# Altium integrated library TI Power Management LDO Single Channel(400-7500mA).IntLib: 1409 symbols (part 47 of 60)
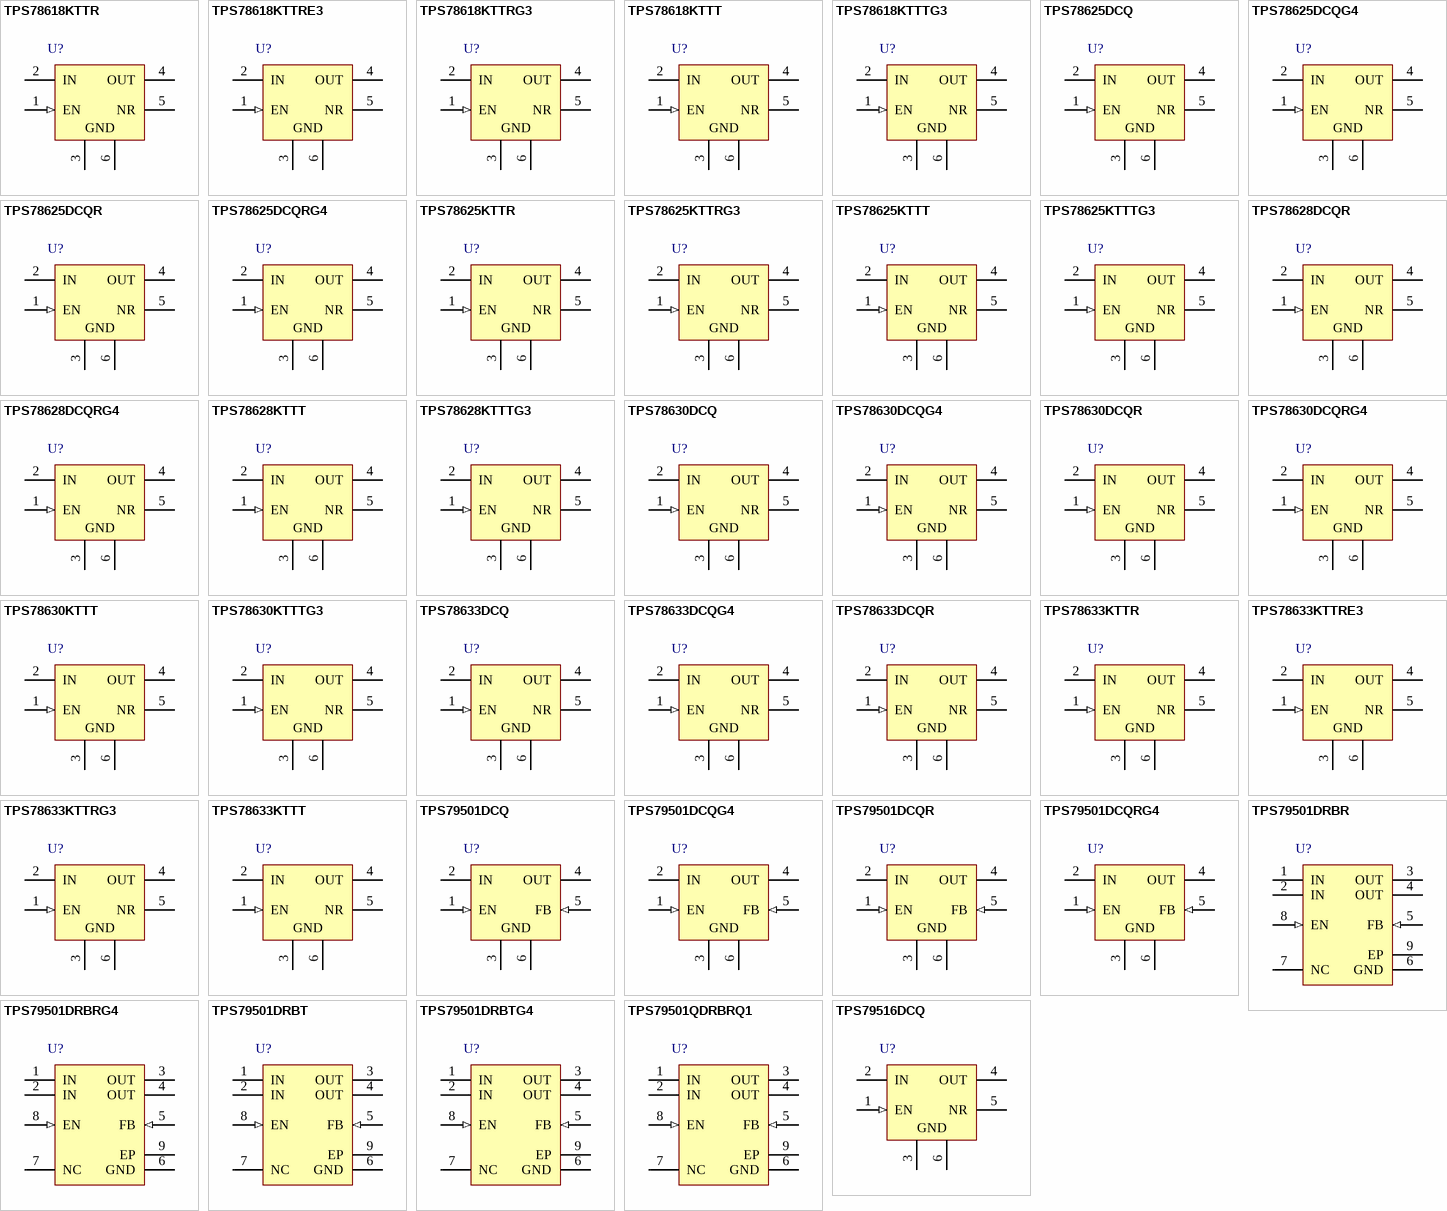
[diagram p96: symbols TPS78618KTTR to TPS79516DCQ]

## TPS78618KTTRE3
designator U?
Single Output High PSRR LDO, 1.5 A, Fixed 1.8 V Output, 2.7 to 5.5 V Input, 5-pin DDPAK (KTT), -40 to 125 degC, Green (RoHS & no Sb/Br); Manufacturer: Texas Instruments; PartNumber: TPS78618KTTRE3; Accuracy(%): 3; Fixed Output Options(V): 1.8; Iout(Max)(A): 1.5; Iq(Typ)(mA): 0.2; SubFamily: Single Channel LDO; Vdo(Typ)(mV): 390; Vin(Max)(V): 5.5; Vin(Min)(V): 2.7; DatasheetVersion: SLVS389L; PackageVersion: 4200577-3/F; PackageReference: KTT5; PackageDescription: 3-Pin Plastic Flange Mount, Body 10.16 x 10.34 mm, Pitch 1.7 mm; Supplier 1: Digi-Key; Supplier Part Number 1: TPS78618KTTRE3-ND; Supplier 2: Mouser; Supplier Part Number 2: 595-TPS78618KTTRE3; Eco-Plan: Green (RoHS & no Sb/Br); Vout Adj(Max)(V): 1.8; Vout Adj(Min)(V): 1.8; Mounting Technology: Surface Mount; Code_JEDEC: TO-263; ComponentLink1Description: Manufacturer URL; ComponentLink1URL: http://www.ti.com/; ComponentLink2Description: Datasheet; ComponentLink2URL: http://www.ti.com/general/docs/lit/getliterature.tsp?genericPartNumber=TPS78618&fileType=pdf; ComponentLink3Description: Package Specification; ComponentLink3URL: http://www.ti.com/litv/pdf/mpsf007e
footprint TI-KTT5_N (DPAK, 5-Leads, Body 10.16x8.925mm, Pitch 1.7mm, IPC Medium Density)
footprint TI-KTT5_L (DPAK, 5-Leads, Body 10.16x8.925mm, Pitch 1.7mm, IPC High Density)
footprint TI-KTT5_M (DPAK, 5-Leads, Body 10.16x8.925mm, Pitch 1.7mm, IPC Low Density)
pins: 1 EN (in) "The EN terminal is an input that enables or shuts down the device. When EN is a logic high, the device is enabled. When the device is a logic low, the device is in shutdown mode.", 2 IN (power) "Unregulated input to the device.", 3 GND (power) "Regulator ground", 4 OUT (power) "Regulator output", 5 NR "Connecting an external capacitor to this pin bypasses noise generated by the internal bandgap, which improves power-supply rejection and reduces output noise.", 6 GND (power) "Regulator ground"

## TPS78618KTTRG3
designator U?
Single Output High PSRR LDO, 1.5 A, Fixed 1.8 V Output, 2.7 to 5.5 V Input, 5-pin DDPAK (KTT), -40 to 125 degC, Green (RoHS & no Sb/Br); Manufacturer: Texas Instruments; PartNumber: TPS78618KTTRG3; Accuracy(%): 3; Fixed Output Options(V): 1.8; Iout(Max)(A): 1.5; Iq(Typ)(mA): 0.2; SubFamily: Single Channel LDO; Vdo(Typ)(mV): 390; Vin(Max)(V): 5.5; Vin(Min)(V): 2.7; DatasheetVersion: SLVS389L; PackageVersion: 4200577-3/F; PackageReference: KTT5; PackageDescription: 3-Pin Plastic Flange Mount, Body 10.16 x 10.34 mm, Pitch 1.7 mm; Supplier 1: Digi-Key; Supplier Part Number 1: TPS78618KTTRG3-ND; Supplier 2: Mouser; Supplier Part Number 2: 595-TPS78618KTTRG3; Eco-Plan: Green (RoHS & no Sb/Br); Vout Adj(Max)(V): 1.8; Vout Adj(Min)(V): 1.8; Mounting Technology: Surface Mount; Code_JEDEC: TO-263; ComponentLink1Description: Manufacturer URL; ComponentLink1URL: http://www.ti.com/; ComponentLink2Description: Datasheet; ComponentLink2URL: http://www.ti.com/general/docs/lit/getliterature.tsp?genericPartNumber=TPS78618&fileType=pdf; ComponentLink3Description: Package Specification; ComponentLink3URL: http://www.ti.com/litv/pdf/mpsf007e
footprint TI-KTT5_N (DPAK, 5-Leads, Body 10.16x8.925mm, Pitch 1.7mm, IPC Medium Density)
footprint TI-KTT5_L (DPAK, 5-Leads, Body 10.16x8.925mm, Pitch 1.7mm, IPC High Density)
footprint TI-KTT5_M (DPAK, 5-Leads, Body 10.16x8.925mm, Pitch 1.7mm, IPC Low Density)
pins: 1 EN (in) "The EN terminal is an input that enables or shuts down the device. When EN is a logic high, the device is enabled. When the device is a logic low, the device is in shutdown mode.", 2 IN (power) "Unregulated input to the device.", 3 GND (power) "Regulator ground", 4 OUT (power) "Regulator output", 5 NR "Connecting an external capacitor to this pin bypasses noise generated by the internal bandgap, which improves power-supply rejection and reduces output noise.", 6 GND (power) "Regulator ground"

## TPS78618KTTT
designator U?
Single Output High PSRR LDO, 1.5 A, Fixed 1.8 V Output, 2.7 to 5.5 V Input, 5-pin DDPAK (KTT), -40 to 125 degC, Green (RoHS & no Sb/Br); Manufacturer: Texas Instruments; PartNumber: TPS78618KTTT; Accuracy(%): 3; Fixed Output Options(V): 1.8; Iout(Max)(A): 1.5; Iq(Typ)(mA): 0.2; SubFamily: Single Channel LDO; Vdo(Typ)(mV): 390; Vin(Max)(V): 5.5; Vin(Min)(V): 2.7; DatasheetVersion: SLVS389L; PackageVersion: 4200577-3/F; PackageReference: KTT5; PackageDescription: 3-Pin Plastic Flange Mount, Body 10.16 x 10.34 mm, Pitch 1.7 mm; Supplier 1: Digi-Key; Supplier Part Number 1: 296-14422-2-ND; Supplier 2: Digi-Key; Supplier Part Number 2: 296-14422-1-ND; Supplier 3: Digi-Key; Supplier Part Number 3: 296-14422-6-ND; Supplier 4: Newark; Supplier Part Number 4: 32H6576; Supplier 5: Mouser; Supplier Part Number 5: 595-TPS78618KTTT; Eco-Plan: Green (RoHS & no Sb/Br); Vout Adj(Max)(V): 1.8; Vout Adj(Min)(V): 1.8; Mounting Technology: Surface Mount; Code_JEDEC: TO-263; ComponentLink1Description: Manufacturer URL; ComponentLink1URL: http://www.ti.com/; ComponentLink2Description: Datasheet; ComponentLink2URL: http://www.ti.com/general/docs/lit/getliterature.tsp?genericPartNumber=TPS78618&fileType=pdf; ComponentLink3Description: Package Specification; ComponentLink3URL: http://www.ti.com/litv/pdf/mpsf007e
footprint TI-KTT5_N (DPAK, 5-Leads, Body 10.16x8.925mm, Pitch 1.7mm, IPC Medium Density)
footprint TI-KTT5_L (DPAK, 5-Leads, Body 10.16x8.925mm, Pitch 1.7mm, IPC High Density)
footprint TI-KTT5_M (DPAK, 5-Leads, Body 10.16x8.925mm, Pitch 1.7mm, IPC Low Density)
pins: 1 EN (in) "The EN terminal is an input that enables or shuts down the device. When EN is a logic high, the device is enabled. When the device is a logic low, the device is in shutdown mode.", 2 IN (power) "Unregulated input to the device.", 3 GND (power) "Regulator ground", 4 OUT (power) "Regulator output", 5 NR "Connecting an external capacitor to this pin bypasses noise generated by the internal bandgap, which improves power-supply rejection and reduces output noise.", 6 GND (power) "Regulator ground"

## TPS78618KTTTG3
designator U?
Single Output High PSRR LDO, 1.5 A, Fixed 1.8 V Output, 2.7 to 5.5 V Input, 5-pin DDPAK (KTT), -40 to 125 degC, Green (RoHS & no Sb/Br); Manufacturer: Texas Instruments; PartNumber: TPS78618KTTTG3; Accuracy(%): 3; Fixed Output Options(V): 1.8; Iout(Max)(A): 1.5; Iq(Typ)(mA): 0.2; SubFamily: Single Channel LDO; Vdo(Typ)(mV): 390; Vin(Max)(V): 5.5; Vin(Min)(V): 2.7; DatasheetVersion: SLVS389L; PackageVersion: 4200577-3/F; PackageReference: KTT5; PackageDescription: 3-Pin Plastic Flange Mount, Body 10.16 x 10.34 mm, Pitch 1.7 mm; Supplier 1: Digi-Key; Supplier Part Number 1: TPS78618KTTTG3-ND; Supplier 2: Mouser; Supplier Part Number 2: 595-TPS78618KTTTG3; Eco-Plan: Green (RoHS & no Sb/Br); Vout Adj(Max)(V): 1.8; Vout Adj(Min)(V): 1.8; Mounting Technology: Surface Mount; Code_JEDEC: TO-263; ComponentLink1Description: Manufacturer URL; ComponentLink1URL: http://www.ti.com/; ComponentLink2Description: Datasheet; ComponentLink2URL: http://www.ti.com/general/docs/lit/getliterature.tsp?genericPartNumber=TPS78618&fileType=pdf; ComponentLink3Description: Package Specification; ComponentLink3URL: http://www.ti.com/litv/pdf/mpsf007e
footprint TI-KTT5_N (DPAK, 5-Leads, Body 10.16x8.925mm, Pitch 1.7mm, IPC Medium Density)
footprint TI-KTT5_L (DPAK, 5-Leads, Body 10.16x8.925mm, Pitch 1.7mm, IPC High Density)
footprint TI-KTT5_M (DPAK, 5-Leads, Body 10.16x8.925mm, Pitch 1.7mm, IPC Low Density)
pins: 1 EN (in) "The EN terminal is an input that enables or shuts down the device. When EN is a logic high, the device is enabled. When the device is a logic low, the device is in shutdown mode.", 2 IN (power) "Unregulated input to the device.", 3 GND (power) "Regulator ground", 4 OUT (power) "Regulator output", 5 NR "Connecting an external capacitor to this pin bypasses noise generated by the internal bandgap, which improves power-supply rejection and reduces output noise.", 6 GND (power) "Regulator ground"

## TPS78625DCQ
designator U?
Single Output High PSRR LDO, 1.5 A, Fixed 2.5 V Output, 2.7 to 5.5 V Input, 6-pin SOT-223 (DCQ), -40 to 125 degC, Green (RoHS & no Sb/Br); Manufacturer: Texas Instruments; PartNumber: TPS78625DCQ; Accuracy(%): 3; Fixed Output Options(V): 2.5; Iout(Max)(A): 1.5; Iq(Typ)(mA): 0.2; SubFamily: Single Channel LDO; Vdo(Typ)(mV): 390; Vin(Max)(V): 5.5; Vin(Min)(V): 2.7; DatasheetVersion: SLVS389L; PackageVersion: 4202109/D; PackageReference: DCQ6; PackageDescription: 6-Pin Plastic Small Outline, Body 3.5 x 6.5 mm, Pitch 1.27 mm; Supplier 1: Digi-Key; Supplier Part Number 1: 296-27090-5-ND; Supplier 2: Newark; Supplier Part Number 2: 02E7250; Supplier 3: Mouser; Supplier Part Number 3: 595-TPS78625DCQ; Eco-Plan: Green (RoHS & no Sb/Br); Vout Adj(Max)(V): 2.5; Vout Adj(Min)(V): 2.5; Mounting Technology: Surface Mount; ComponentLink1Description: Manufacturer URL; ComponentLink1URL: http://www.ti.com/; ComponentLink2Description: Datasheet; ComponentLink2URL: http://www.ti.com/general/docs/lit/getliterature.tsp?genericPartNumber=TPS78625&fileType=pdf; ComponentLink3Description: Package Specification; ComponentLink3URL: http://www.ti.com/litv/pdf/mpds098c
footprint TI-DCQ6_N (SOT223, 6-Leads, Body 6.5x3.5mm, Pitch 1.27mm, IPC Medium Density)
footprint TI-DCQ6_L (SOT223, 6-Leads, Body 6.5x3.5mm, Pitch 1.27mm, IPC High Density)
footprint TI-DCQ6_M (SOT223, 6-Leads, Body 6.5x3.5mm, Pitch 1.27mm, IPC Low Density)
pins: 1 EN (in) "The EN terminal is an input that enables or shuts down the device. When EN is a logic high, the device is enabled. When the device is a logic low, the device is in shutdown mode.", 2 IN (power) "Unregulated input to the device.", 3 GND (power) "Regulator ground", 4 OUT (power) "Regulator output", 5 NR "Connecting an external capacitor to this pin bypasses noise generated by the internal bandgap, which improves power-supply rejection and reduces output noise.", 6 GND (power) "Regulator ground"

## TPS78625DCQG4
designator U?
Single Output High PSRR LDO, 1.5 A, Fixed 2.5 V Output, 2.7 to 5.5 V Input, 6-pin SOT-223 (DCQ), -40 to 125 degC, Green (RoHS & no Sb/Br); Manufacturer: Texas Instruments; PartNumber: TPS78625DCQG4; Accuracy(%): 3; Fixed Output Options(V): 2.5; Iout(Max)(A): 1.5; Iq(Typ)(mA): 0.2; SubFamily: Single Channel LDO; Vdo(Typ)(mV): 390; Vin(Max)(V): 5.5; Vin(Min)(V): 2.7; DatasheetVersion: SLVS389L; PackageVersion: 4202109/D; PackageReference: DCQ6; PackageDescription: 6-Pin Plastic Small Outline, Body 3.5 x 6.5 mm, Pitch 1.27 mm; Supplier 1: Digi-Key; Supplier Part Number 1: TPS78625DCQG4-ND; Supplier 2: Newark; Supplier Part Number 2: 85K1744; Supplier 3: Mouser; Supplier Part Number 3: 595-TPS78625DCQG4; Eco-Plan: Green (RoHS & no Sb/Br); Vout Adj(Max)(V): 2.5; Vout Adj(Min)(V): 2.5; Mounting Technology: Surface Mount; ComponentLink1Description: Manufacturer URL; ComponentLink1URL: http://www.ti.com/; ComponentLink2Description: Datasheet; ComponentLink2URL: http://www.ti.com/general/docs/lit/getliterature.tsp?genericPartNumber=TPS78625&fileType=pdf; ComponentLink3Description: Package Specification; ComponentLink3URL: http://www.ti.com/litv/pdf/mpds098c
footprint TI-DCQ6_N (SOT223, 6-Leads, Body 6.5x3.5mm, Pitch 1.27mm, IPC Medium Density)
footprint TI-DCQ6_L (SOT223, 6-Leads, Body 6.5x3.5mm, Pitch 1.27mm, IPC High Density)
footprint TI-DCQ6_M (SOT223, 6-Leads, Body 6.5x3.5mm, Pitch 1.27mm, IPC Low Density)
pins: 1 EN (in) "The EN terminal is an input that enables or shuts down the device. When EN is a logic high, the device is enabled. When the device is a logic low, the device is in shutdown mode.", 2 IN (power) "Unregulated input to the device.", 3 GND (power) "Regulator ground", 4 OUT (power) "Regulator output", 5 NR "Connecting an external capacitor to this pin bypasses noise generated by the internal bandgap, which improves power-supply rejection and reduces output noise.", 6 GND (power) "Regulator ground"

## TPS78625DCQR
designator U?
Single Output High PSRR LDO, 1.5 A, Fixed 2.5 V Output, 2.7 to 5.5 V Input, 6-pin SOT-223 (DCQ), -40 to 125 degC, Green (RoHS & no Sb/Br); Manufacturer: Texas Instruments; PartNumber: TPS78625DCQR; Accuracy(%): 3; Fixed Output Options(V): 2.5; Iout(Max)(A): 1.5; Iq(Typ)(mA): 0.2; SubFamily: Single Channel LDO; Vdo(Typ)(mV): 390; Vin(Max)(V): 5.5; Vin(Min)(V): 2.7; DatasheetVersion: SLVS389L; PackageVersion: 4202109/D; PackageReference: DCQ6; PackageDescription: 6-Pin Plastic Small Outline, Body 3.5 x 6.5 mm, Pitch 1.27 mm; Supplier 1: Digi-Key; Supplier Part Number 1: 296-13757-2-ND; Supplier 2: Digi-Key; Supplier Part Number 2: 296-13757-1-ND; Supplier 3: Digi-Key; Supplier Part Number 3: 296-13757-6-ND; Supplier 4: Newark; Supplier Part Number 4: 02E7251; Supplier 5: Mouser; Supplier Part Number 5: 595-TPS78625DCQR; Eco-Plan: Green (RoHS & no Sb/Br); Vout Adj(Max)(V): 2.5; Vout Adj(Min)(V): 2.5; Mounting Technology: Surface Mount; ComponentLink1Description: Manufacturer URL; ComponentLink1URL: http://www.ti.com/; ComponentLink2Description: Datasheet; ComponentLink2URL: http://www.ti.com/general/docs/lit/getliterature.tsp?genericPartNumber=TPS78625&fileType=pdf; ComponentLink3Description: Package Specification; ComponentLink3URL: http://www.ti.com/litv/pdf/mpds098c
footprint TI-DCQ6_N (SOT223, 6-Leads, Body 6.5x3.5mm, Pitch 1.27mm, IPC Medium Density)
footprint TI-DCQ6_L (SOT223, 6-Leads, Body 6.5x3.5mm, Pitch 1.27mm, IPC High Density)
footprint TI-DCQ6_M (SOT223, 6-Leads, Body 6.5x3.5mm, Pitch 1.27mm, IPC Low Density)
pins: 1 EN (in) "The EN terminal is an input that enables or shuts down the device. When EN is a logic high, the device is enabled. When the device is a logic low, the device is in shutdown mode.", 2 IN (power) "Unregulated input to the device.", 3 GND (power) "Regulator ground", 4 OUT (power) "Regulator output", 5 NR "Connecting an external capacitor to this pin bypasses noise generated by the internal bandgap, which improves power-supply rejection and reduces output noise.", 6 GND (power) "Regulator ground"

## TPS78625DCQRG4
designator U?
Single Output High PSRR LDO, 1.5 A, Fixed 2.5 V Output, 2.7 to 5.5 V Input, 6-pin SOT-223 (DCQ), -40 to 125 degC, Green (RoHS & no Sb/Br); Manufacturer: Texas Instruments; PartNumber: TPS78625DCQRG4; Accuracy(%): 3; Fixed Output Options(V): 2.5; Iout(Max)(A): 1.5; Iq(Typ)(mA): 0.2; SubFamily: Single Channel LDO; Vdo(Typ)(mV): 390; Vin(Max)(V): 5.5; Vin(Min)(V): 2.7; DatasheetVersion: SLVS389L; PackageVersion: 4202109/D; PackageReference: DCQ6; PackageDescription: 6-Pin Plastic Small Outline, Body 3.5 x 6.5 mm, Pitch 1.27 mm; Supplier 1: Digi-Key; Supplier Part Number 1: TPS78625DCQRG4-ND; Supplier 2: Mouser; Supplier Part Number 2: 595-TPS78625DCQRG4; Eco-Plan: Green (RoHS & no Sb/Br); Vout Adj(Max)(V): 2.5; Vout Adj(Min)(V): 2.5; Mounting Technology: Surface Mount; ComponentLink1Description: Manufacturer URL; ComponentLink1URL: http://www.ti.com/; ComponentLink2Description: Datasheet; ComponentLink2URL: http://www.ti.com/general/docs/lit/getliterature.tsp?genericPartNumber=TPS78625&fileType=pdf; ComponentLink3Description: Package Specification; ComponentLink3URL: http://www.ti.com/litv/pdf/mpds098c
footprint TI-DCQ6_N (SOT223, 6-Leads, Body 6.5x3.5mm, Pitch 1.27mm, IPC Medium Density)
footprint TI-DCQ6_L (SOT223, 6-Leads, Body 6.5x3.5mm, Pitch 1.27mm, IPC High Density)
footprint TI-DCQ6_M (SOT223, 6-Leads, Body 6.5x3.5mm, Pitch 1.27mm, IPC Low Density)
pins: 1 EN (in) "The EN terminal is an input that enables or shuts down the device. When EN is a logic high, the device is enabled. When the device is a logic low, the device is in shutdown mode.", 2 IN (power) "Unregulated input to the device.", 3 GND (power) "Regulator ground", 4 OUT (power) "Regulator output", 5 NR "Connecting an external capacitor to this pin bypasses noise generated by the internal bandgap, which improves power-supply rejection and reduces output noise.", 6 GND (power) "Regulator ground"

## TPS78625KTTR
designator U?
Single Output High PSRR LDO, 1.5 A, Fixed 2.5 V Output, 2.7 to 5.5 V Input, 5-pin DDPAK (KTT), -40 to 125 degC, Green (RoHS & no Sb/Br); Manufacturer: Texas Instruments; PartNumber: TPS78625KTTR; Accuracy(%): 3; Fixed Output Options(V): 2.5; Iout(Max)(A): 1.5; Iq(Typ)(mA): 0.2; SubFamily: Single Channel LDO; Vdo(Typ)(mV): 390; Vin(Max)(V): 5.5; Vin(Min)(V): 2.7; DatasheetVersion: SLVS389L; PackageVersion: 4200577-3/F; PackageReference: KTT5; PackageDescription: 3-Pin Plastic Flange Mount, Body 10.16 x 10.34 mm, Pitch 1.7 mm; Supplier 1: Digi-Key; Supplier Part Number 1: TPS78625KTTR-ND; Supplier 2: Mouser; Supplier Part Number 2: 595-TPS78625KTTR; Eco-Plan: Green (RoHS & no Sb/Br); Vout Adj(Max)(V): 2.5; Vout Adj(Min)(V): 2.5; Mounting Technology: Surface Mount; Code_JEDEC: TO-263; ComponentLink1Description: Manufacturer URL; ComponentLink1URL: http://www.ti.com/; ComponentLink2Description: Datasheet; ComponentLink2URL: http://www.ti.com/general/docs/lit/getliterature.tsp?genericPartNumber=TPS78625&fileType=pdf; ComponentLink3Description: Package Specification; ComponentLink3URL: http://www.ti.com/litv/pdf/mpsf007e
footprint TI-KTT5_N (DPAK, 5-Leads, Body 10.16x8.925mm, Pitch 1.7mm, IPC Medium Density)
footprint TI-KTT5_L (DPAK, 5-Leads, Body 10.16x8.925mm, Pitch 1.7mm, IPC High Density)
footprint TI-KTT5_M (DPAK, 5-Leads, Body 10.16x8.925mm, Pitch 1.7mm, IPC Low Density)
pins: 1 EN (in) "The EN terminal is an input that enables or shuts down the device. When EN is a logic high, the device is enabled. When the device is a logic low, the device is in shutdown mode.", 2 IN (power) "Unregulated input to the device.", 3 GND (power) "Regulator ground", 4 OUT (power) "Regulator output", 5 NR "Connecting an external capacitor to this pin bypasses noise generated by the internal bandgap, which improves power-supply rejection and reduces output noise.", 6 GND (power) "Regulator ground"

## TPS78625KTTRG3
designator U?
Single Output High PSRR LDO, 1.5 A, Fixed 2.5 V Output, 2.7 to 5.5 V Input, 5-pin DDPAK (KTT), -40 to 125 degC, Green (RoHS & no Sb/Br); Manufacturer: Texas Instruments; PartNumber: TPS78625KTTRG3; Accuracy(%): 3; Fixed Output Options(V): 2.5; Iout(Max)(A): 1.5; Iq(Typ)(mA): 0.2; SubFamily: Single Channel LDO; Vdo(Typ)(mV): 390; Vin(Max)(V): 5.5; Vin(Min)(V): 2.7; DatasheetVersion: SLVS389L; PackageVersion: 4200577-3/F; PackageReference: KTT5; PackageDescription: 3-Pin Plastic Flange Mount, Body 10.16 x 10.34 mm, Pitch 1.7 mm; Supplier 1: Digi-Key; Supplier Part Number 1: TPS78625KTTRG3-ND; Supplier 2: Mouser; Supplier Part Number 2: 595-TPS78625KTTRG3; Eco-Plan: Green (RoHS & no Sb/Br); Vout Adj(Max)(V): 2.5; Vout Adj(Min)(V): 2.5; Mounting Technology: Surface Mount; Code_JEDEC: TO-263; ComponentLink1Description: Manufacturer URL; ComponentLink1URL: http://www.ti.com/; ComponentLink2Description: Datasheet; ComponentLink2URL: http://www.ti.com/general/docs/lit/getliterature.tsp?genericPartNumber=TPS78625&fileType=pdf; ComponentLink3Description: Package Specification; ComponentLink3URL: http://www.ti.com/litv/pdf/mpsf007e
footprint TI-KTT5_N (DPAK, 5-Leads, Body 10.16x8.925mm, Pitch 1.7mm, IPC Medium Density)
footprint TI-KTT5_L (DPAK, 5-Leads, Body 10.16x8.925mm, Pitch 1.7mm, IPC High Density)
footprint TI-KTT5_M (DPAK, 5-Leads, Body 10.16x8.925mm, Pitch 1.7mm, IPC Low Density)
pins: 1 EN (in) "The EN terminal is an input that enables or shuts down the device. When EN is a logic high, the device is enabled. When the device is a logic low, the device is in shutdown mode.", 2 IN (power) "Unregulated input to the device.", 3 GND (power) "Regulator ground", 4 OUT (power) "Regulator output", 5 NR "Connecting an external capacitor to this pin bypasses noise generated by the internal bandgap, which improves power-supply rejection and reduces output noise.", 6 GND (power) "Regulator ground"

## TPS78625KTTT
designator U?
Single Output High PSRR LDO, 1.5 A, Fixed 2.5 V Output, 2.7 to 5.5 V Input, 5-pin DDPAK (KTT), -40 to 125 degC, Green (RoHS & no Sb/Br); Manufacturer: Texas Instruments; PartNumber: TPS78625KTTT; Accuracy(%): 3; Fixed Output Options(V): 2.5; Iout(Max)(A): 1.5; Iq(Typ)(mA): 0.2; SubFamily: Single Channel LDO; Vdo(Typ)(mV): 390; Vin(Max)(V): 5.5; Vin(Min)(V): 2.7; DatasheetVersion: SLVS389L; PackageVersion: 4200577-3/F; PackageReference: KTT5; PackageDescription: 3-Pin Plastic Flange Mount, Body 10.16 x 10.34 mm, Pitch 1.7 mm; Supplier 1: Digi-Key; Supplier Part Number 1: 296-14423-2-ND; Supplier 2: Digi-Key; Supplier Part Number 2: 296-14423-1-ND; Supplier 3: Digi-Key; Supplier Part Number 3: 296-14423-6-ND; Supplier 4: Mouser; Supplier Part Number 4: 595-TPS78625KTTT; Eco-Plan: Green (RoHS & no Sb/Br); Vout Adj(Max)(V): 2.5; Vout Adj(Min)(V): 2.5; Mounting Technology: Surface Mount; Code_JEDEC: TO-263; ComponentLink1Description: Manufacturer URL; ComponentLink1URL: http://www.ti.com/; ComponentLink2Description: Datasheet; ComponentLink2URL: http://www.ti.com/general/docs/lit/getliterature.tsp?genericPartNumber=TPS78625&fileType=pdf; ComponentLink3Description: Package Specification; ComponentLink3URL: http://www.ti.com/litv/pdf/mpsf007e
footprint TI-KTT5_N (DPAK, 5-Leads, Body 10.16x8.925mm, Pitch 1.7mm, IPC Medium Density)
footprint TI-KTT5_L (DPAK, 5-Leads, Body 10.16x8.925mm, Pitch 1.7mm, IPC High Density)
footprint TI-KTT5_M (DPAK, 5-Leads, Body 10.16x8.925mm, Pitch 1.7mm, IPC Low Density)
pins: 1 EN (in) "The EN terminal is an input that enables or shuts down the device. When EN is a logic high, the device is enabled. When the device is a logic low, the device is in shutdown mode.", 2 IN (power) "Unregulated input to the device.", 3 GND (power) "Regulator ground", 4 OUT (power) "Regulator output", 5 NR "Connecting an external capacitor to this pin bypasses noise generated by the internal bandgap, which improves power-supply rejection and reduces output noise.", 6 GND (power) "Regulator ground"

## TPS78625KTTTG3
designator U?
Single Output High PSRR LDO, 1.5 A, Fixed 2.5 V Output, 2.7 to 5.5 V Input, 5-pin DDPAK (KTT), -40 to 125 degC, Green (RoHS & no Sb/Br); Manufacturer: Texas Instruments; PartNumber: TPS78625KTTTG3; Accuracy(%): 3; Fixed Output Options(V): 2.5; Iout(Max)(A): 1.5; Iq(Typ)(mA): 0.2; SubFamily: Single Channel LDO; Vdo(Typ)(mV): 390; Vin(Max)(V): 5.5; Vin(Min)(V): 2.7; DatasheetVersion: SLVS389L; PackageVersion: 4200577-3/F; PackageReference: KTT5; PackageDescription: 3-Pin Plastic Flange Mount, Body 10.16 x 10.34 mm, Pitch 1.7 mm; Supplier 1: Digi-Key; Supplier Part Number 1: TPS78625KTTTG3-ND; Supplier 2: Mouser; Supplier Part Number 2: 595-TPS78625KTTTG3; Eco-Plan: Green (RoHS & no Sb/Br); Vout Adj(Max)(V): 2.5; Vout Adj(Min)(V): 2.5; Mounting Technology: Surface Mount; Code_JEDEC: TO-263; ComponentLink1Description: Manufacturer URL; ComponentLink1URL: http://www.ti.com/; ComponentLink2Description: Datasheet; ComponentLink2URL: http://www.ti.com/general/docs/lit/getliterature.tsp?genericPartNumber=TPS78625&fileType=pdf; ComponentLink3Description: Package Specification; ComponentLink3URL: http://www.ti.com/litv/pdf/mpsf007e
footprint TI-KTT5_N (DPAK, 5-Leads, Body 10.16x8.925mm, Pitch 1.7mm, IPC Medium Density)
footprint TI-KTT5_L (DPAK, 5-Leads, Body 10.16x8.925mm, Pitch 1.7mm, IPC High Density)
footprint TI-KTT5_M (DPAK, 5-Leads, Body 10.16x8.925mm, Pitch 1.7mm, IPC Low Density)
pins: 1 EN (in) "The EN terminal is an input that enables or shuts down the device. When EN is a logic high, the device is enabled. When the device is a logic low, the device is in shutdown mode.", 2 IN (power) "Unregulated input to the device.", 3 GND (power) "Regulator ground", 4 OUT (power) "Regulator output", 5 NR "Connecting an external capacitor to this pin bypasses noise generated by the internal bandgap, which improves power-supply rejection and reduces output noise.", 6 GND (power) "Regulator ground"

## TPS78628DCQR
designator U?
Single Output High PSRR LDO, 1.5 A, Fixed 2.8 V Output, 2.7 to 5.5 V Input, 6-pin SOT-223 (DCQ), -40 to 125 degC, Green (RoHS & no Sb/Br); Manufacturer: Texas Instruments; PartNumber: TPS78628DCQR; Accuracy(%): 3; Fixed Output Options(V): 2.8; Iout(Max)(A): 1.5; Iq(Typ)(mA): 0.2; SubFamily: Single Channel LDO; Vdo(Typ)(mV): 410; Vin(Max)(V): 5.5; Vin(Min)(V): 2.7; DatasheetVersion: SLVS389L; PackageVersion: 4202109/D; PackageReference: DCQ6; PackageDescription: 6-Pin Plastic Small Outline, Body 3.5 x 6.5 mm, Pitch 1.27 mm; Supplier 1: Digi-Key; Supplier Part Number 1: 296-13758-2-ND; Supplier 2: Digi-Key; Supplier Part Number 2: 296-13758-1-ND; Supplier 3: Digi-Key; Supplier Part Number 3: 296-13758-6-ND; Supplier 4: Mouser; Supplier Part Number 4: 595-TPS78628DCQR; Eco-Plan: Green (RoHS & no Sb/Br); Vout Adj(Max)(V): 2.8; Vout Adj(Min)(V): 2.8; Mounting Technology: Surface Mount; ComponentLink1Description: Manufacturer URL; ComponentLink1URL: http://www.ti.com/; ComponentLink2Description: Datasheet; ComponentLink2URL: http://www.ti.com/general/docs/lit/getliterature.tsp?genericPartNumber=TPS78628&fileType=pdf; ComponentLink3Description: Package Specification; ComponentLink3URL: http://www.ti.com/litv/pdf/mpds098c
footprint TI-DCQ6_N (SOT223, 6-Leads, Body 6.5x3.5mm, Pitch 1.27mm, IPC Medium Density)
footprint TI-DCQ6_L (SOT223, 6-Leads, Body 6.5x3.5mm, Pitch 1.27mm, IPC High Density)
footprint TI-DCQ6_M (SOT223, 6-Leads, Body 6.5x3.5mm, Pitch 1.27mm, IPC Low Density)
pins: 1 EN (in) "The EN terminal is an input that enables or shuts down the device. When EN is a logic high, the device is enabled. When the device is a logic low, the device is in shutdown mode.", 2 IN (power) "Unregulated input to the device.", 3 GND (power) "Regulator ground", 4 OUT (power) "Regulator output", 5 NR "Connecting an external capacitor to this pin bypasses noise generated by the internal bandgap, which improves power-supply rejection and reduces output noise.", 6 GND (power) "Regulator ground"

## TPS78628DCQRG4
designator U?
Single Output High PSRR LDO, 1.5 A, Fixed 2.8 V Output, 2.7 to 5.5 V Input, 6-pin SOT-223 (DCQ), -40 to 125 degC, Green (RoHS & no Sb/Br); Manufacturer: Texas Instruments; PartNumber: TPS78628DCQRG4; Accuracy(%): 3; Fixed Output Options(V): 2.8; Iout(Max)(A): 1.5; Iq(Typ)(mA): 0.2; SubFamily: Single Channel LDO; Vdo(Typ)(mV): 410; Vin(Max)(V): 5.5; Vin(Min)(V): 2.7; DatasheetVersion: SLVS389L; PackageVersion: 4202109/D; PackageReference: DCQ6; PackageDescription: 6-Pin Plastic Small Outline, Body 3.5 x 6.5 mm, Pitch 1.27 mm; Supplier 1: Digi-Key; Supplier Part Number 1: TPS78628DCQRG4-ND; Supplier 2: Mouser; Supplier Part Number 2: 595-TPS78628DCQRG4; Eco-Plan: Green (RoHS & no Sb/Br); Vout Adj(Max)(V): 2.8; Vout Adj(Min)(V): 2.8; Mounting Technology: Surface Mount; ComponentLink1Description: Manufacturer URL; ComponentLink1URL: http://www.ti.com/; ComponentLink2Description: Datasheet; ComponentLink2URL: http://www.ti.com/general/docs/lit/getliterature.tsp?genericPartNumber=TPS78628&fileType=pdf; ComponentLink3Description: Package Specification; ComponentLink3URL: http://www.ti.com/litv/pdf/mpds098c
footprint TI-DCQ6_N (SOT223, 6-Leads, Body 6.5x3.5mm, Pitch 1.27mm, IPC Medium Density)
footprint TI-DCQ6_L (SOT223, 6-Leads, Body 6.5x3.5mm, Pitch 1.27mm, IPC High Density)
footprint TI-DCQ6_M (SOT223, 6-Leads, Body 6.5x3.5mm, Pitch 1.27mm, IPC Low Density)
pins: 1 EN (in) "The EN terminal is an input that enables or shuts down the device. When EN is a logic high, the device is enabled. When the device is a logic low, the device is in shutdown mode.", 2 IN (power) "Unregulated input to the device.", 3 GND (power) "Regulator ground", 4 OUT (power) "Regulator output", 5 NR "Connecting an external capacitor to this pin bypasses noise generated by the internal bandgap, which improves power-supply rejection and reduces output noise.", 6 GND (power) "Regulator ground"

## TPS78628KTTT
designator U?
Single Output High PSRR LDO, 1.5 A, Fixed 2.8 V Output, 2.7 to 5.5 V Input, 5-pin DDPAK (KTT), -40 to 125 degC, Green (RoHS & no Sb/Br); Manufacturer: Texas Instruments; PartNumber: TPS78628KTTT; Accuracy(%): 3; Fixed Output Options(V): 2.8; Iout(Max)(A): 1.5; Iq(Typ)(mA): 0.2; SubFamily: Single Channel LDO; Vdo(Typ)(mV): 410; Vin(Max)(V): 5.5; Vin(Min)(V): 2.7; DatasheetVersion: SLVS389L; PackageVersion: 4200577-3/F; PackageReference: KTT5; PackageDescription: 3-Pin Plastic Flange Mount, Body 10.16 x 10.34 mm, Pitch 1.7 mm; Supplier 1: Digi-Key; Supplier Part Number 1: 296-14424-2-ND; Supplier 2: Digi-Key; Supplier Part Number 2: 296-14424-1-ND; Supplier 3: Digi-Key; Supplier Part Number 3: 296-14424-6-ND; Supplier 4: Mouser; Supplier Part Number 4: 595-TPS78628KTTT; Eco-Plan: Green (RoHS & no Sb/Br); Vout Adj(Max)(V): 2.8; Vout Adj(Min)(V): 2.8; Mounting Technology: Surface Mount; Code_JEDEC: TO-263; ComponentLink1Description: Manufacturer URL; ComponentLink1URL: http://www.ti.com/; ComponentLink2Description: Datasheet; ComponentLink2URL: http://www.ti.com/general/docs/lit/getliterature.tsp?genericPartNumber=TPS78628&fileType=pdf; ComponentLink3Description: Package Specification; ComponentLink3URL: http://www.ti.com/litv/pdf/mpsf007e
footprint TI-KTT5_N (DPAK, 5-Leads, Body 10.16x8.925mm, Pitch 1.7mm, IPC Medium Density)
footprint TI-KTT5_L (DPAK, 5-Leads, Body 10.16x8.925mm, Pitch 1.7mm, IPC High Density)
footprint TI-KTT5_M (DPAK, 5-Leads, Body 10.16x8.925mm, Pitch 1.7mm, IPC Low Density)
pins: 1 EN (in) "The EN terminal is an input that enables or shuts down the device. When EN is a logic high, the device is enabled. When the device is a logic low, the device is in shutdown mode.", 2 IN (power) "Unregulated input to the device.", 3 GND (power) "Regulator ground", 4 OUT (power) "Regulator output", 5 NR "Connecting an external capacitor to this pin bypasses noise generated by the internal bandgap, which improves power-supply rejection and reduces output noise.", 6 GND (power) "Regulator ground"

## TPS78628KTTTG3
designator U?
Single Output High PSRR LDO, 1.5 A, Fixed 2.8 V Output, 2.7 to 5.5 V Input, 5-pin DDPAK (KTT), -40 to 125 degC, Green (RoHS & no Sb/Br); Manufacturer: Texas Instruments; PartNumber: TPS78628KTTTG3; Accuracy(%): 3; Fixed Output Options(V): 2.8; Iout(Max)(A): 1.5; Iq(Typ)(mA): 0.2; SubFamily: Single Channel LDO; Vdo(Typ)(mV): 410; Vin(Max)(V): 5.5; Vin(Min)(V): 2.7; DatasheetVersion: SLVS389L; PackageVersion: 4200577-3/F; PackageReference: KTT5; PackageDescription: 3-Pin Plastic Flange Mount, Body 10.16 x 10.34 mm, Pitch 1.7 mm; Supplier 1: Digi-Key; Supplier Part Number 1: TPS78628KTTTG3-ND; Supplier 2: Mouser; Supplier Part Number 2: 595-TPS78628KTTTG3; Eco-Plan: Green (RoHS & no Sb/Br); Vout Adj(Max)(V): 2.8; Vout Adj(Min)(V): 2.8; Mounting Technology: Surface Mount; Code_JEDEC: TO-263; ComponentLink1Description: Manufacturer URL; ComponentLink1URL: http://www.ti.com/; ComponentLink2Description: Datasheet; ComponentLink2URL: http://www.ti.com/general/docs/lit/getliterature.tsp?genericPartNumber=TPS78628&fileType=pdf; ComponentLink3Description: Package Specification; ComponentLink3URL: http://www.ti.com/litv/pdf/mpsf007e
footprint TI-KTT5_N (DPAK, 5-Leads, Body 10.16x8.925mm, Pitch 1.7mm, IPC Medium Density)
footprint TI-KTT5_L (DPAK, 5-Leads, Body 10.16x8.925mm, Pitch 1.7mm, IPC High Density)
footprint TI-KTT5_M (DPAK, 5-Leads, Body 10.16x8.925mm, Pitch 1.7mm, IPC Low Density)
pins: 1 EN (in) "The EN terminal is an input that enables or shuts down the device. When EN is a logic high, the device is enabled. When the device is a logic low, the device is in shutdown mode.", 2 IN (power) "Unregulated input to the device.", 3 GND (power) "Regulator ground", 4 OUT (power) "Regulator output", 5 NR "Connecting an external capacitor to this pin bypasses noise generated by the internal bandgap, which improves power-supply rejection and reduces output noise.", 6 GND (power) "Regulator ground"

## TPS78630DCQ
designator U?
Single Output High PSRR LDO, 1.5 A, Fixed 3 V Output, 2.7 to 5.5 V Input, 6-pin SOT-223 (DCQ), -40 to 125 degC, Green (RoHS & no Sb/Br); Manufacturer: Texas Instruments; PartNumber: TPS78630DCQ; Accuracy(%): 3; Iout(Max)(A): 1.5; Iq(Typ)(mA): 0.2; SubFamily: Single Channel LDO; Vdo(Typ)(mV): 390; Vin(Max)(V): 5.5; Vin(Min)(V): 2.7; DatasheetVersion: SLVS389L; PackageVersion: 4202109/D; PackageReference: DCQ6; PackageDescription: 6-Pin Plastic Small Outline, Body 3.5 x 6.5 mm, Pitch 1.27 mm; Supplier 1: Digi-Key; Supplier Part Number 1: TPS78630DCQ-ND; Supplier 2: Newark; Supplier Part Number 2: 02E7254; Supplier 3: Mouser; Supplier Part Number 3: 595-TPS78630DCQ; Eco-Plan: Green (RoHS & no Sb/Br); Fixed Output Options(V): 3; Vout Adj(Max)(V): 3; Vout Adj(Min)(V): 3; Mounting Technology: Surface Mount; ComponentLink1Description: Manufacturer URL; ComponentLink1URL: http://www.ti.com/; ComponentLink2Description: Datasheet; ComponentLink2URL: http://www.ti.com/general/docs/lit/getliterature.tsp?genericPartNumber=TPS78630&fileType=pdf; ComponentLink3Description: Package Specification; ComponentLink3URL: http://www.ti.com/litv/pdf/mpds098c
footprint TI-DCQ6_N (SOT223, 6-Leads, Body 6.5x3.5mm, Pitch 1.27mm, IPC Medium Density)
footprint TI-DCQ6_L (SOT223, 6-Leads, Body 6.5x3.5mm, Pitch 1.27mm, IPC High Density)
footprint TI-DCQ6_M (SOT223, 6-Leads, Body 6.5x3.5mm, Pitch 1.27mm, IPC Low Density)
pins: 1 EN (in) "The EN terminal is an input that enables or shuts down the device. When EN is a logic high, the device is enabled. When the device is a logic low, the device is in shutdown mode.", 2 IN (power) "Unregulated input to the device.", 3 GND (power) "Regulator ground", 4 OUT (power) "Regulator output", 5 NR "Connecting an external capacitor to this pin bypasses noise generated by the internal bandgap, which improves power-supply rejection and reduces output noise.", 6 GND (power) "Regulator ground"

## TPS78630DCQG4
designator U?
Single Output High PSRR LDO, 1.5 A, Fixed 3 V Output, 2.7 to 5.5 V Input, 6-pin SOT-223 (DCQ), -40 to 125 degC, Green (RoHS & no Sb/Br); Manufacturer: Texas Instruments; PartNumber: TPS78630DCQG4; Accuracy(%): 3; Iout(Max)(A): 1.5; Iq(Typ)(mA): 0.2; SubFamily: Single Channel LDO; Vdo(Typ)(mV): 390; Vin(Max)(V): 5.5; Vin(Min)(V): 2.7; DatasheetVersion: SLVS389L; PackageVersion: 4202109/D; PackageReference: DCQ6; PackageDescription: 6-Pin Plastic Small Outline, Body 3.5 x 6.5 mm, Pitch 1.27 mm; Supplier 1: Digi-Key; Supplier Part Number 1: TPS78630DCQG4-ND; Supplier 2: Mouser; Supplier Part Number 2: 595-TPS78630DCQG4; Eco-Plan: Green (RoHS & no Sb/Br); Fixed Output Options(V): 3; Vout Adj(Max)(V): 3; Vout Adj(Min)(V): 3; Mounting Technology: Surface Mount; ComponentLink1Description: Manufacturer URL; ComponentLink1URL: http://www.ti.com/; ComponentLink2Description: Datasheet; ComponentLink2URL: http://www.ti.com/general/docs/lit/getliterature.tsp?genericPartNumber=TPS78630&fileType=pdf; ComponentLink3Description: Package Specification; ComponentLink3URL: http://www.ti.com/litv/pdf/mpds098c
footprint TI-DCQ6_N (SOT223, 6-Leads, Body 6.5x3.5mm, Pitch 1.27mm, IPC Medium Density)
footprint TI-DCQ6_L (SOT223, 6-Leads, Body 6.5x3.5mm, Pitch 1.27mm, IPC High Density)
footprint TI-DCQ6_M (SOT223, 6-Leads, Body 6.5x3.5mm, Pitch 1.27mm, IPC Low Density)
pins: 1 EN (in) "The EN terminal is an input that enables or shuts down the device. When EN is a logic high, the device is enabled. When the device is a logic low, the device is in shutdown mode.", 2 IN (power) "Unregulated input to the device.", 3 GND (power) "Regulator ground", 4 OUT (power) "Regulator output", 5 NR "Connecting an external capacitor to this pin bypasses noise generated by the internal bandgap, which improves power-supply rejection and reduces output noise.", 6 GND (power) "Regulator ground"

## TPS78630DCQR
designator U?
Single Output High PSRR LDO, 1.5 A, Fixed 3 V Output, 2.7 to 5.5 V Input, 6-pin SOT-223 (DCQ), -40 to 125 degC, Green (RoHS & no Sb/Br); Manufacturer: Texas Instruments; PartNumber: TPS78630DCQR; Accuracy(%): 3; Iout(Max)(A): 1.5; Iq(Typ)(mA): 0.2; SubFamily: Single Channel LDO; Vdo(Typ)(mV): 390; Vin(Max)(V): 5.5; Vin(Min)(V): 2.7; DatasheetVersion: SLVS389L; PackageVersion: 4202109/D; PackageReference: DCQ6; PackageDescription: 6-Pin Plastic Small Outline, Body 3.5 x 6.5 mm, Pitch 1.27 mm; Supplier 1: Digi-Key; Supplier Part Number 1: 296-13759-2-ND; Supplier 2: Digi-Key; Supplier Part Number 2: 296-13759-1-ND; Supplier 3: Mouser; Supplier Part Number 3: 595-TPS78630DCQR; Eco-Plan: Green (RoHS & no Sb/Br); Fixed Output Options(V): 3; Vout Adj(Max)(V): 3; Vout Adj(Min)(V): 3; Mounting Technology: Surface Mount; ComponentLink1Description: Manufacturer URL; ComponentLink1URL: http://www.ti.com/; ComponentLink2Description: Datasheet; ComponentLink2URL: http://www.ti.com/general/docs/lit/getliterature.tsp?genericPartNumber=TPS78630&fileType=pdf; ComponentLink3Description: Package Specification; ComponentLink3URL: http://www.ti.com/litv/pdf/mpds098c
footprint TI-DCQ6_N (SOT223, 6-Leads, Body 6.5x3.5mm, Pitch 1.27mm, IPC Medium Density)
footprint TI-DCQ6_L (SOT223, 6-Leads, Body 6.5x3.5mm, Pitch 1.27mm, IPC High Density)
footprint TI-DCQ6_M (SOT223, 6-Leads, Body 6.5x3.5mm, Pitch 1.27mm, IPC Low Density)
pins: 1 EN (in) "The EN terminal is an input that enables or shuts down the device. When EN is a logic high, the device is enabled. When the device is a logic low, the device is in shutdown mode.", 2 IN (power) "Unregulated input to the device.", 3 GND (power) "Regulator ground", 4 OUT (power) "Regulator output", 5 NR "Connecting an external capacitor to this pin bypasses noise generated by the internal bandgap, which improves power-supply rejection and reduces output noise.", 6 GND (power) "Regulator ground"

## TPS78630DCQRG4
designator U?
Single Output High PSRR LDO, 1.5 A, Fixed 3 V Output, 2.7 to 5.5 V Input, 6-pin SOT-223 (DCQ), -40 to 125 degC, Green (RoHS & no Sb/Br); Manufacturer: Texas Instruments; PartNumber: TPS78630DCQRG4; Accuracy(%): 3; Iout(Max)(A): 1.5; Iq(Typ)(mA): 0.2; SubFamily: Single Channel LDO; Vdo(Typ)(mV): 390; Vin(Max)(V): 5.5; Vin(Min)(V): 2.7; DatasheetVersion: SLVS389L; PackageVersion: 4202109/D; PackageReference: DCQ6; PackageDescription: 6-Pin Plastic Small Outline, Body 3.5 x 6.5 mm, Pitch 1.27 mm; Supplier 1: Digi-Key; Supplier Part Number 1: TPS78630DCQRG4-ND; Supplier 2: Mouser; Supplier Part Number 2: 595-TPS78630DCQRG4; Eco-Plan: Green (RoHS & no Sb/Br); Fixed Output Options(V): 3; Vout Adj(Max)(V): 3; Vout Adj(Min)(V): 3; Mounting Technology: Surface Mount; ComponentLink1Description: Manufacturer URL; ComponentLink1URL: http://www.ti.com/; ComponentLink2Description: Datasheet; ComponentLink2URL: http://www.ti.com/general/docs/lit/getliterature.tsp?genericPartNumber=TPS78630&fileType=pdf; ComponentLink3Description: Package Specification; ComponentLink3URL: http://www.ti.com/litv/pdf/mpds098c
footprint TI-DCQ6_N (SOT223, 6-Leads, Body 6.5x3.5mm, Pitch 1.27mm, IPC Medium Density)
footprint TI-DCQ6_L (SOT223, 6-Leads, Body 6.5x3.5mm, Pitch 1.27mm, IPC High Density)
footprint TI-DCQ6_M (SOT223, 6-Leads, Body 6.5x3.5mm, Pitch 1.27mm, IPC Low Density)
pins: 1 EN (in) "The EN terminal is an input that enables or shuts down the device. When EN is a logic high, the device is enabled. When the device is a logic low, the device is in shutdown mode.", 2 IN (power) "Unregulated input to the device.", 3 GND (power) "Regulator ground", 4 OUT (power) "Regulator output", 5 NR "Connecting an external capacitor to this pin bypasses noise generated by the internal bandgap, which improves power-supply rejection and reduces output noise.", 6 GND (power) "Regulator ground"

## TPS78630KTTT
designator U?
Single Output High PSRR LDO, 1.5 A, Fixed 3 V Output, 2.7 to 5.5 V Input, 5-pin DDPAK (KTT), -40 to 125 degC, Green (RoHS & no Sb/Br); Manufacturer: Texas Instruments; PartNumber: TPS78630KTTT; Accuracy(%): 3; Iout(Max)(A): 1.5; Iq(Typ)(mA): 0.2; SubFamily: Single Channel LDO; Vdo(Typ)(mV): 390; Vin(Max)(V): 5.5; Vin(Min)(V): 2.7; DatasheetVersion: SLVS389L; PackageVersion: 4200577-3/F; PackageReference: KTT5; PackageDescription: 3-Pin Plastic Flange Mount, Body 10.16 x 10.34 mm, Pitch 1.7 mm; Supplier 1: Digi-Key; Supplier Part Number 1: 296-14425-2-ND; Supplier 2: Digi-Key; Supplier Part Number 2: 296-14425-1-ND; Supplier 3: Digi-Key; Supplier Part Number 3: 296-14425-6-ND; Supplier 4: Mouser; Supplier Part Number 4: 595-TPS78630KTTT; Eco-Plan: Green (RoHS & no Sb/Br); Fixed Output Options(V): 3; Vout Adj(Max)(V): 3; Vout Adj(Min)(V): 3; Mounting Technology: Surface Mount; Code_JEDEC: TO-263; ComponentLink1Description: Manufacturer URL; ComponentLink1URL: http://www.ti.com/; ComponentLink2Description: Datasheet; ComponentLink2URL: http://www.ti.com/general/docs/lit/getliterature.tsp?genericPartNumber=TPS78630&fileType=pdf; ComponentLink3Description: Package Specification; ComponentLink3URL: http://www.ti.com/litv/pdf/mpsf007e
footprint TI-KTT5_N (DPAK, 5-Leads, Body 10.16x8.925mm, Pitch 1.7mm, IPC Medium Density)
footprint TI-KTT5_L (DPAK, 5-Leads, Body 10.16x8.925mm, Pitch 1.7mm, IPC High Density)
footprint TI-KTT5_M (DPAK, 5-Leads, Body 10.16x8.925mm, Pitch 1.7mm, IPC Low Density)
pins: 1 EN (in) "The EN terminal is an input that enables or shuts down the device. When EN is a logic high, the device is enabled. When the device is a logic low, the device is in shutdown mode.", 2 IN (power) "Unregulated input to the device.", 3 GND (power) "Regulator ground", 4 OUT (power) "Regulator output", 5 NR "Connecting an external capacitor to this pin bypasses noise generated by the internal bandgap, which improves power-supply rejection and reduces output noise.", 6 GND (power) "Regulator ground"

## TPS78630KTTTG3
designator U?
Single Output High PSRR LDO, 1.5 A, Fixed 3 V Output, 2.7 to 5.5 V Input, 5-pin DDPAK (KTT), -40 to 125 degC, Green (RoHS & no Sb/Br); Manufacturer: Texas Instruments; PartNumber: TPS78630KTTTG3; Accuracy(%): 3; Iout(Max)(A): 1.5; Iq(Typ)(mA): 0.2; SubFamily: Single Channel LDO; Vdo(Typ)(mV): 390; Vin(Max)(V): 5.5; Vin(Min)(V): 2.7; DatasheetVersion: SLVS389L; PackageVersion: 4200577-3/F; PackageReference: KTT5; PackageDescription: 3-Pin Plastic Flange Mount, Body 10.16 x 10.34 mm, Pitch 1.7 mm; Supplier 1: Digi-Key; Supplier Part Number 1: TPS78630KTTTG3-ND; Supplier 2: Mouser; Supplier Part Number 2: 595-TPS78630KTTTG3; Eco-Plan: Green (RoHS & no Sb/Br); Fixed Output Options(V): 3; Vout Adj(Max)(V): 3; Vout Adj(Min)(V): 3; Mounting Technology: Surface Mount; Code_JEDEC: TO-263; ComponentLink1Description: Manufacturer URL; ComponentLink1URL: http://www.ti.com/; ComponentLink2Description: Datasheet; ComponentLink2URL: http://www.ti.com/general/docs/lit/getliterature.tsp?genericPartNumber=TPS78630&fileType=pdf; ComponentLink3Description: Package Specification; ComponentLink3URL: http://www.ti.com/litv/pdf/mpsf007e
footprint TI-KTT5_N (DPAK, 5-Leads, Body 10.16x8.925mm, Pitch 1.7mm, IPC Medium Density)
footprint TI-KTT5_L (DPAK, 5-Leads, Body 10.16x8.925mm, Pitch 1.7mm, IPC High Density)
footprint TI-KTT5_M (DPAK, 5-Leads, Body 10.16x8.925mm, Pitch 1.7mm, IPC Low Density)
pins: 1 EN (in) "The EN terminal is an input that enables or shuts down the device. When EN is a logic high, the device is enabled. When the device is a logic low, the device is in shutdown mode.", 2 IN (power) "Unregulated input to the device.", 3 GND (power) "Regulator ground", 4 OUT (power) "Regulator output", 5 NR "Connecting an external capacitor to this pin bypasses noise generated by the internal bandgap, which improves power-supply rejection and reduces output noise.", 6 GND (power) "Regulator ground"

## TPS78633DCQ
designator U?
Single Output High PSRR LDO, 1.5 A, Fixed 3.3 V Output, 2.7 to 5.5 V Input, 6-pin SOT-223 (DCQ), -40 to 125 degC, Green (RoHS & no Sb/Br); Manufacturer: Texas Instruments; PartNumber: TPS78633DCQ; Accuracy(%): 3; Fixed Output Options(V): 3.3; Iout(Max)(A): 1.5; Iq(Typ)(mA): 0.02; SubFamily: Single Channel LDO; Vdo(Typ)(mV): 340; Vin(Max)(V): 5.5; Vin(Min)(V): 2.7; DatasheetVersion: SLVS389L; PackageVersion: 4202109/D; PackageReference: DCQ6; PackageDescription: 6-Pin Plastic Small Outline, Body 3.5 x 6.5 mm, Pitch 1.27 mm; Supplier 1: Digi-Key; Supplier Part Number 1: 296-13760-5-ND; Supplier 2: Newark; Supplier Part Number 2: 02E7256; Supplier 3: Mouser; Supplier Part Number 3: 595-TPS78633DCQ; Eco-Plan: Green (RoHS & no Sb/Br); Vout Adj(Max)(V): 3.3; Vout Adj(Min)(V): 3.3; Mounting Technology: Surface Mount; ComponentLink1Description: Manufacturer URL; ComponentLink1URL: http://www.ti.com/; ComponentLink2Description: Datasheet; ComponentLink2URL: http://www.ti.com/general/docs/lit/getliterature.tsp?genericPartNumber=TPS78633&fileType=pdf; ComponentLink3Description: Package Specification; ComponentLink3URL: http://www.ti.com/litv/pdf/mpds098c
footprint TI-DCQ6_N (SOT223, 6-Leads, Body 6.5x3.5mm, Pitch 1.27mm, IPC Medium Density)
footprint TI-DCQ6_L (SOT223, 6-Leads, Body 6.5x3.5mm, Pitch 1.27mm, IPC High Density)
footprint TI-DCQ6_M (SOT223, 6-Leads, Body 6.5x3.5mm, Pitch 1.27mm, IPC Low Density)
pins: 1 EN (in) "The EN terminal is an input that enables or shuts down the device. When EN is a logic high, the device is enabled. When the device is a logic low, the device is in shutdown mode.", 2 IN (power) "Unregulated input to the device.", 3 GND (power) "Regulator ground", 4 OUT (power) "Regulator output", 5 NR "Connecting an external capacitor to this pin bypasses noise generated by the internal bandgap, which improves power-supply rejection and reduces output noise.", 6 GND (power) "Regulator ground"

## TPS78633DCQG4
designator U?
Single Output High PSRR LDO, 1.5 A, Fixed 3.3 V Output, 2.7 to 5.5 V Input, 6-pin SOT-223 (DCQ), -40 to 125 degC, Green (RoHS & no Sb/Br); Manufacturer: Texas Instruments; PartNumber: TPS78633DCQG4; Accuracy(%): 3; Fixed Output Options(V): 3.3; Iout(Max)(A): 1.5; Iq(Typ)(mA): 0.02; SubFamily: Single Channel LDO; Vdo(Typ)(mV): 340; Vin(Max)(V): 5.5; Vin(Min)(V): 2.7; DatasheetVersion: SLVS389L; PackageVersion: 4202109/D; PackageReference: DCQ6; PackageDescription: 6-Pin Plastic Small Outline, Body 3.5 x 6.5 mm, Pitch 1.27 mm; Supplier 1: Digi-Key; Supplier Part Number 1: TPS78633DCQG4-ND; Supplier 2: Farnell; Supplier Part Number 2: 1207352; Supplier 3: Newark; Supplier Part Number 3: 62M0787; Supplier 4: Newark; Supplier Part Number 4: 61K1927; Supplier 5: Mouser; Supplier Part Number 5: 595-TPS78633DCQG4; Eco-Plan: Green (RoHS & no Sb/Br); Vout Adj(Max)(V): 3.3; Vout Adj(Min)(V): 3.3; Mounting Technology: Surface Mount; ComponentLink1Description: Manufacturer URL; ComponentLink1URL: http://www.ti.com/; ComponentLink2Description: Datasheet; ComponentLink2URL: http://www.ti.com/general/docs/lit/getliterature.tsp?genericPartNumber=TPS78633&fileType=pdf; ComponentLink3Description: Package Specification; ComponentLink3URL: http://www.ti.com/litv/pdf/mpds098c
footprint TI-DCQ6_N (SOT223, 6-Leads, Body 6.5x3.5mm, Pitch 1.27mm, IPC Medium Density)
footprint TI-DCQ6_L (SOT223, 6-Leads, Body 6.5x3.5mm, Pitch 1.27mm, IPC High Density)
footprint TI-DCQ6_M (SOT223, 6-Leads, Body 6.5x3.5mm, Pitch 1.27mm, IPC Low Density)
pins: 1 EN (in) "The EN terminal is an input that enables or shuts down the device. When EN is a logic high, the device is enabled. When the device is a logic low, the device is in shutdown mode.", 2 IN (power) "Unregulated input to the device.", 3 GND (power) "Regulator ground", 4 OUT (power) "Regulator output", 5 NR "Connecting an external capacitor to this pin bypasses noise generated by the internal bandgap, which improves power-supply rejection and reduces output noise.", 6 GND (power) "Regulator ground"

## TPS78633DCQR
designator U?
Single Output High PSRR LDO, 1.5 A, Fixed 3.3 V Output, 2.7 to 5.5 V Input, 6-pin SOT-223 (DCQ), -40 to 125 degC, Green (RoHS & no Sb/Br); Manufacturer: Texas Instruments; PartNumber: TPS78633DCQR; Accuracy(%): 3; Fixed Output Options(V): 3.3; Iout(Max)(A): 1.5; Iq(Typ)(mA): 0.02; SubFamily: Single Channel LDO; Vdo(Typ)(mV): 340; Vin(Max)(V): 5.5; Vin(Min)(V): 2.7; DatasheetVersion: SLVS389L; PackageVersion: 4202109/D; PackageReference: DCQ6; PackageDescription: 6-Pin Plastic Small Outline, Body 3.5 x 6.5 mm, Pitch 1.27 mm; Supplier 1: Digi-Key; Supplier Part Number 1: 296-13760-2-ND; Supplier 2: Digi-Key; Supplier Part Number 2: 296-13760-1-ND; Supplier 3: Digi-Key; Supplier Part Number 3: 296-13760-6-ND; Supplier 4: Newark; Supplier Part Number 4: 02E7257; Supplier 5: Mouser; Supplier Part Number 5: 595-TPS78633DCQR; Eco-Plan: Green (RoHS & no Sb/Br); Vout Adj(Max)(V): 3.3; Vout Adj(Min)(V): 3.3; Mounting Technology: Surface Mount; ComponentLink1Description: Manufacturer URL; ComponentLink1URL: http://www.ti.com/; ComponentLink2Description: Datasheet; ComponentLink2URL: http://www.ti.com/general/docs/lit/getliterature.tsp?genericPartNumber=TPS78633&fileType=pdf; ComponentLink3Description: Package Specification; ComponentLink3URL: http://www.ti.com/litv/pdf/mpds098c
footprint TI-DCQ6_N (SOT223, 6-Leads, Body 6.5x3.5mm, Pitch 1.27mm, IPC Medium Density)
footprint TI-DCQ6_L (SOT223, 6-Leads, Body 6.5x3.5mm, Pitch 1.27mm, IPC High Density)
footprint TI-DCQ6_M (SOT223, 6-Leads, Body 6.5x3.5mm, Pitch 1.27mm, IPC Low Density)
pins: 1 EN (in) "The EN terminal is an input that enables or shuts down the device. When EN is a logic high, the device is enabled. When the device is a logic low, the device is in shutdown mode.", 2 IN (power) "Unregulated input to the device.", 3 GND (power) "Regulator ground", 4 OUT (power) "Regulator output", 5 NR "Connecting an external capacitor to this pin bypasses noise generated by the internal bandgap, which improves power-supply rejection and reduces output noise.", 6 GND (power) "Regulator ground"